# EAGLE library part FE12-2W (library con-lsta_benim)
FEMALE HEADER
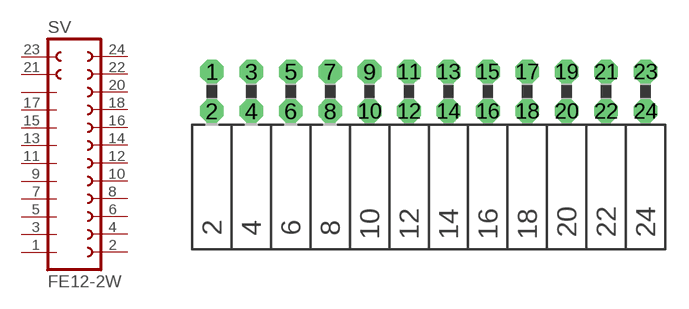
[diagram p36: symbol with the pads of FE12-2W; footprint FE12-2W]

Designator prefix SV

## FE12-2W (OC_FARNELL: unknown; OC_NEWARK: unknown)  [FE12-2W]
1  1  pas
2  223  pas
3  2  pas
4  433  pas
5  3  pas
6  633  pas
7  4  pas
8  833  pas
9  5  pas
10  103  pas
11  6  pas
12  123  pas
13  7  pas
14  142  pas
15  8  pas
16  162  pas
17  9  pas
18  183  pas
19  10  pas
20  202  pas
21  11  pas
22  22  pas
23  12  pas
24  24  pas

## Footprint FE12-2W (pad centres in mm)
FEMALE HEADER
drill 1.016 octagon: 1 -13.97,1.27; 2 -13.97,-1.27; 3 -11.43,1.27; 4 -11.43,-1.27; 5 -8.89,1.27; 6 -8.89,-1.27; 7 -6.35,1.27; 8 -6.35,-1.27; 9 -3.81,1.27; 10 -3.81,-1.27; 11 -1.27,1.27; 12 -1.27,-1.27; 13 1.27,1.27; 14 1.27,-1.27; 15 3.81,1.27; 16 3.81,-1.27; 17 6.35,1.27; 18 6.35,-1.27; 19 8.89,1.27; 20 8.89,-1.27; 21 11.43,1.27; 22 11.43,-1.27; 23 13.97,1.27; 24 13.97,-1.27